# Altium schematic symbol library RegularLib.SchLib: 34 symbols
Pins are listed as number, name and electrical type; pins without a type are passive.

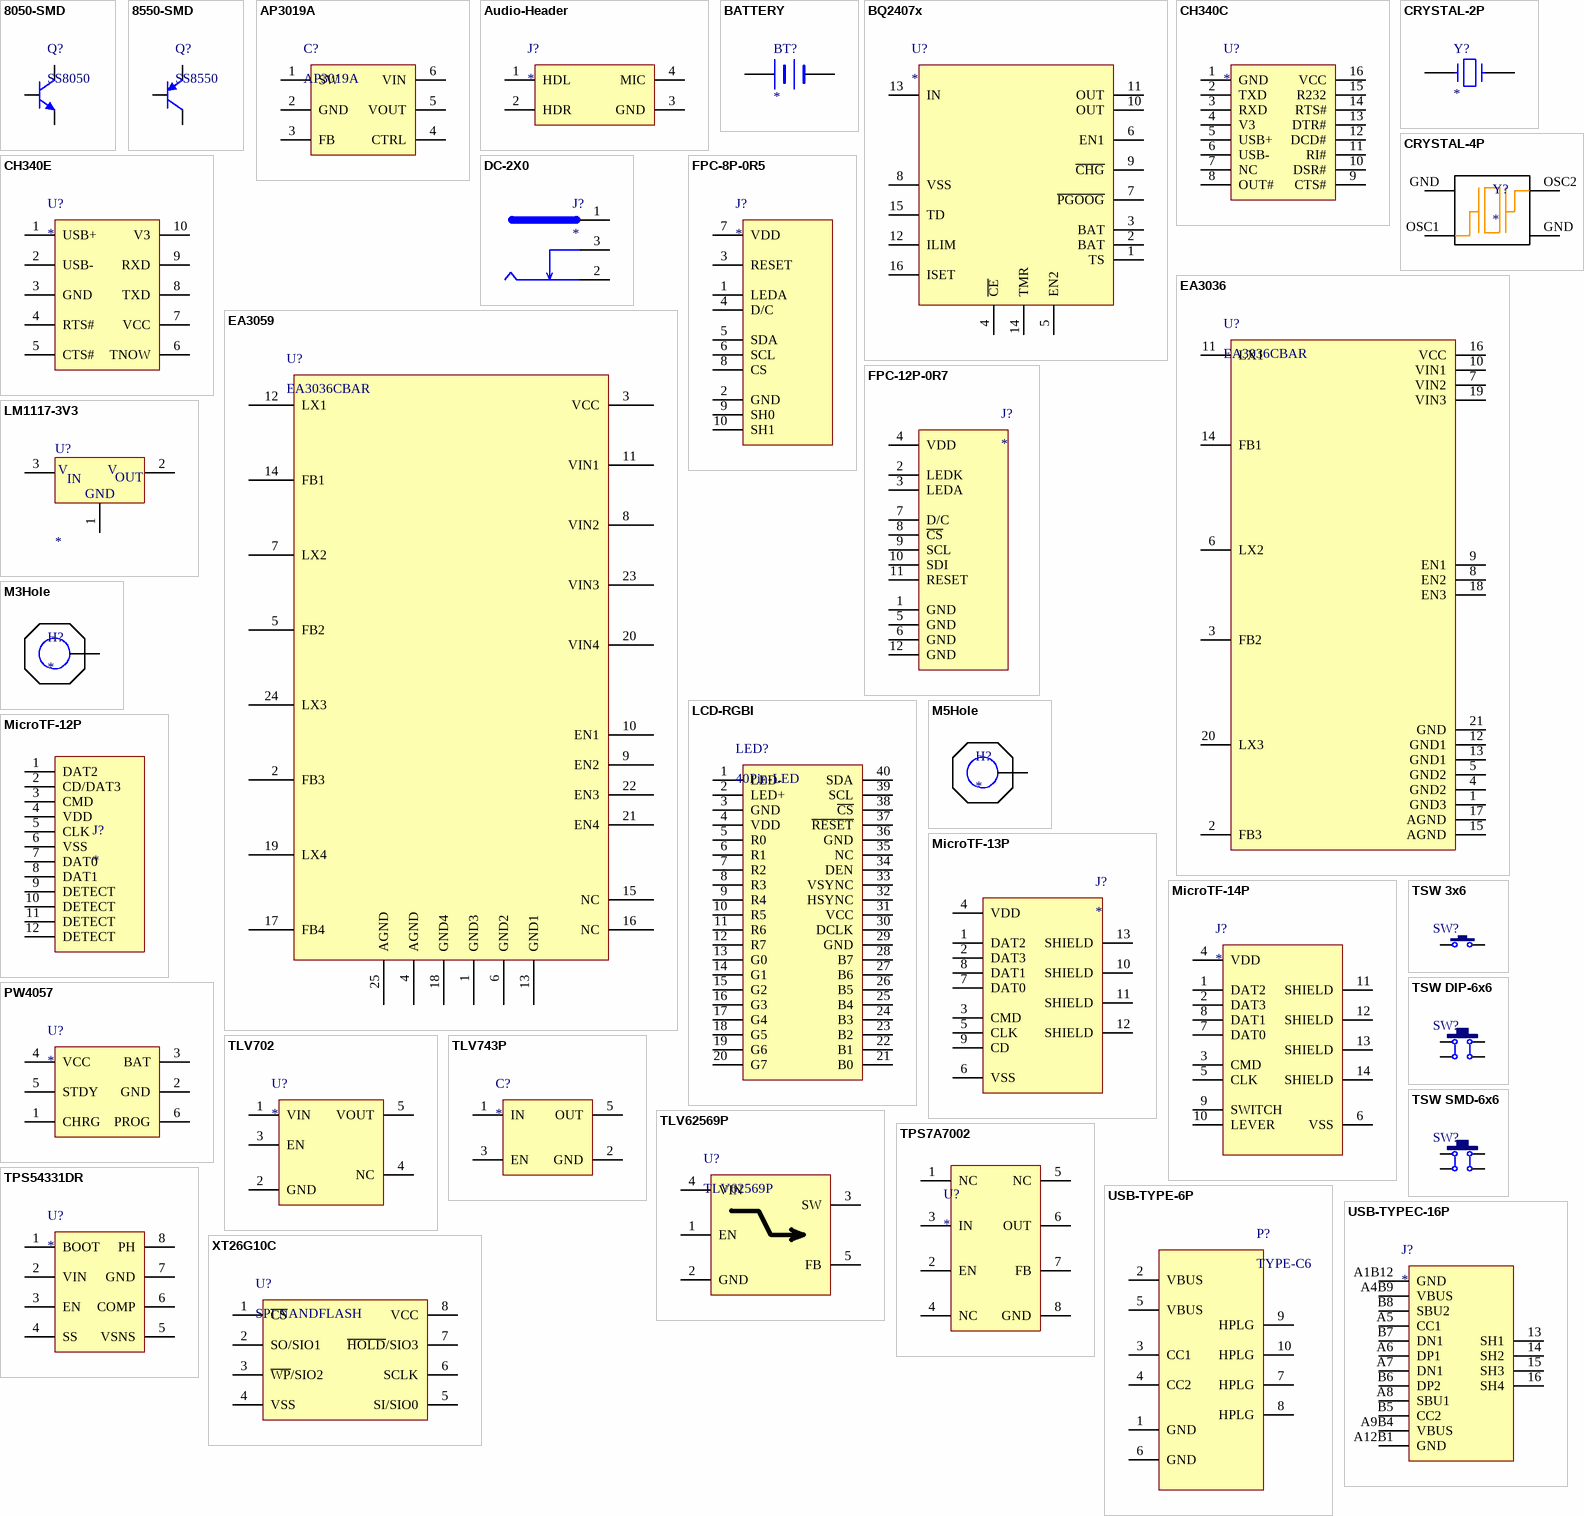
[diagram p0: symbols 8050-SMD to XT26G10C]

## 8050-SMD
designator Q?, comment SS8050
高频放大-NPN型; 版权归属: 源创客; 属性: 40V 1.5A 1W 100MHZ; BOM名称: 高频放大-NPN型; 学习资源: www.ooocke.com
footprint SOT23-3N (3x1.3x1mm(长宽高))
footprint SOT23-3L (3x1.3x1mm(长宽高))
footprint SOT23-3M (3x1.3x1mm(长宽高))
pins: 1 B, 2 E, 3 C

## 8550-SMD
designator Q?, comment SS8550
高频放大-PNP型; 版权归属: 源创客; 属性: 40V 1.5A 1W 100MHZ; BOM名称: 高频放大-PNP型; 学习资源: www.ooocke.com
footprint SOT23-3N (3x1.3x1mm(长宽高))
footprint SOT23-3L (3x1.3x1mm(长宽高))
footprint SOT23-3M (3x1.3x1mm(长宽高))
pins: 1 B, 2 E, 3 C

## AP3019A
designator C?
pins: 1 SW, 2 GND, 3 FB, 4 CTRL, 5 VOUT, 6 VIN

## Audio-Header
designator J?
footprint Audio-Header-4 (Shouhan audio header of 4 pin)
pins: 1 HDL, 2 HDR, 3 GND, 4 MIC

## BATTERY
designator BT?
Battery
pins: 1 +, 2 -

## BQ2407x
designator U?
footprint VQFN127P600-8N
pins: 1 TS, 2 BAT, 3 BAT, 4 ~{CE}, 5 EN2, 6 EN1, 7 ~{PGOOG}, 8 VSS, 9 ~{CHG}, 10 OUT, 11 OUT, 12 ILIM, 13 IN, 14 TMR, 15 TD, 16 ISET

## CH340C
designator U?
footprint SOP127P610X180-16N (SOP, 16-Leads, Body 10.10x3.95mm, Pitch 1.27mm, IPC Medium Density)
pins: 1 GND, 2 TXD, 3 RXD, 4 V3, 5 USB+, 6 USB-, 7 NC, 8 OUT#, 9 CTS#, 10 DSR#, 11 RI#, 12 DCD#, 13 DTR#, 14 RTS#, 15 R232, 16 VCC

## CH340E
designator U?
pins: 1 USB+, 2 USB-, 3 GND, 4 RTS#, 5 CTS#, 6 TNOW, 7 VCC, 8 TXD, 9 RXD, 10 V3

## CRYSTAL-2P
designator Y?
Crystal
pins: 1, 2

## CRYSTAL-4P
designator Y?
Ctrystal of 4 pin
footprint SMD3225-4P
pins: GND 3, GND 4, OSC1 1, OSC2 2

## DC-2X0
designator J?
footprint DC2.0-3P (The header of the DC, with 2.0mm)
pins: 1, 2, 3

## EA3036
designator U?, comment EA3036CBAR
footprint QFN-3X3-20-EA3036
pins: 1 GND3, 2 FB3, 3 FB2, 4 GND2, 5 GND2, 6 LX2, 7 VIN2, 8 EN2, 9 EN1, 10 VIN1, 11 LX1, 12 GND1, 13 GND1, 14 FB1, 15 AGND, 16 VCC, 17 AGND, 18 EN3, 19 VIN3, 20 LX3, 21 GND

## EA3059
designator U?, comment EA3036CBAR
footprint QFN-4X4-24-EA3059 (QFN, 24-Leads, Body 4.00x4.00mm, Pitch 0.50mm, Thermal Pad 2.50x2.50mm, IPC Medium Density)
pins: 1 GND3, 2 FB3, 3 VCC, 4 AGND, 5 FB2, 6 GND2, 7 LX2, 8 VIN2, 9 EN2, 10 EN1, 11 VIN1, 12 LX1, 13 GND1, 14 FB1, 15 NC, 16 NC, 17 FB4, 18 GND4, 19 LX4, 20 VIN4, 21 EN4, 22 EN3, 23 VIN3, 24 LX3, 25 AGND

## FPC-8P-0R5
designator J?
footprint FPC-8P-0R5 (FPC connector of 8Pin, and 0.5mm pin)
pins: 1 LEDA, 2 GND, 3 RESET, 4 D/C, 5 SDA, 6 SCL, 7 VDD, 8 CS, 9 SH0, 10 SH1

## FPC-12P-0R7
designator J?
footprint FPC12-0R7
pins: 1 GND, 2 LEDK, 3 LEDA, 4 VDD, 5 GND, 6 GND, 7 D/C, 8 ~{CS}, 9 SCL, 10 SDI, 11 RESET, 12 GND

## LCD-RGBI
designator LED?, comment 40Pin-LED
footprint FPC-40P-0R5
pins: 1 LED-, 2 LED+, 3 GND, 4 VDD, 5 R0, 6 R1, 7 R2, 8 R3, 9 R4, 10 R5, 11 R6, 12 R7, 13 G0, 14 G1, 15 G2, 16 G3, 17 G4, 18 G5, 19 G6, 20 G7, 21 B0, 22 B1, 23 B2, 24 B3, 25 B4, 26 B5, 27 B6, 28 B7, 29 GND, 30 DCLK, 31 VCC, 32 HSYNC, 33 VSYNC, 34 DEN, 35 NC, 36 GND, 37 ~{RESET}, 38 ~{CS}, 39 SCL, 40 SDA

## LM1117-3V3
designator U?
3-Terminal Positive Voltage Regulator
simulation model 78L05 (SUBCKT)
footprint SOT223
pins: 1 GND, 2 VOUT, 3 VIN
text: V; IN; OUT

## M3Hole
designator H?
footprint M3Hole
pins: 0 5

## M5Hole
designator H?
footprint Hole (5mm~2.5mm)
pins: 0 5

## MicroTF-12P
designator J?
footprint MicroSD-12P (富士康)
pins: 1 DAT2, 2 CD/DAT3, 3 CMD, 4 VDD, 5 CLK, 6 VSS, 7 DAT0, 8 DAT1, 9 DETECT, 10 DETECT, 11 DETECT, 12 DETECT

## MicroTF-13P
designator J?
XunPu Micro-SD card slot,  lable: TF-115
footprint MicroSD-13P-XunPu
pins: 1 DAT2, 2 DAT3, 3 CMD, 4 VDD, 5 CLK, 6 VSS, 7 DAT0, 8 DAT1, 9 CD, 10 SHIELD, 11 SHIELD, 12 SHIELD, 13 SHIELD

## MicroTF-14P
designator J?
Modelx micro-sd
footprint MICROSD-14P-MODELX (modelx-81892)
pins: 1 DAT2, 2 DAT3, 3 CMD, 4 VDD, 5 CLK, 6 VSS, 7 DAT0, 8 DAT1, 9 SWITCH, 10 LEVER, 11 SHIELD, 12 SHIELD, 13 SHIELD, 14 SHIELD

## PW4057
designator U?
pins: 1 CHRG, 2 GND, 3 BAT, 4 VCC, 5 STDY, 6 PROG

## TLV702
designator U?
TI LDO chip, max output current: 300mA, drapout=220mV
footprint SOT23-5
pins: 1 VIN, 2 GND, 3 EN, 4 NC, 5 VOUT

## TLV743P
designator C?
This device is SOT233-5 footprint, the function of device is LDO regulator
footprint SOT23-5
pins: 1 IN, 2 GND, 3 EN, 5 OUT

## TLV62569P
designator U?
The TLV62569 is a high-efficiency synchronous step-down converter. The device operates with an adaptive off time with peak current control scheme
footprint SOT23-5
pins: 1 EN, 2 GND, 3 SW, 4 VIN, 5 FB

## TPS7A7002
designator U?
TI LDO regulator, provide super low dropout voltage and high output current 3A
footprint SOIC-8-EP (The TPS7A7002 offers a high current supply with very-low dropout voltage)
pins: 1 NC, 2 EN, 3 IN, 4 NC, 5 NC, 6 OUT, 7 FB, 8 GND

## TPS54331DR
designator U?
TI bulk chip, 3A
footprint SOP8
pins: 1 BOOT, 2 VIN, 3 EN, 4 SS, 5 VSNS, 6 COMP, 7 GND, 8 PH

## TSW 3x6
designator SW?, comment 3x6x5  (value not drawn)
3x6轻触开关; 版权归属: 源创客; BOM名称: 3x6轻触开关; 学习资源: www.ooocke.com
pins: 1, 2

## TSW DIP-6x6
designator SW?, comment 6x6x5  (value not drawn)
直插6x6轻触开关; 版权归属: 源创客; BOM名称: 直插6x6轻触开关; 学习资源: www.ooocke.com
pins: 1, 2, 3, 4

## TSW SMD-6x6
designator SW?, comment 6x6x5  (value not drawn)
贴片6x6轻触开关; 版权归属: 源创客; BOM名称: 贴片6x6轻触开关; 学习资源: www.ooocke.com
footprint TSW SMD-6*6*4.3 (6*6*4.3mm)
footprint TSW SMD-6*6*5 (6*6*5mm)
footprint TSW SMD-6*6*6 (6*6*6mm)
footprint TSW SMD-6*6*7 (6*6*7mm)
footprint TSW SMD-6*6*8 (6*6*8mm)
footprint TSW SMD-6*6*9 (6*6*9mm)
footprint TSW SMD-6*6*10 (6*6*10mm)
footprint TSW SMD-6*6*12 (6*6*12mm)
footprint TSW SMD-6*6*13 (6*6*13mm)
footprint TSW SMD-6*6*14 (6*6*14mm)
footprint TSW SMD-6*6*15 (6*6*15mm)
pins: 1, 2, 3, 4

## USB-TYPE-6P
designator P?, comment TYPE-C6
footprint USB-TYPE-C6 (This component come from taobao, hahaha!)
pins: 1 GND, 2 VBUS, 3 CC1, 4 CC2, 5 VBUS, 6 GND, 7 HPLG, 8 HPLG, 9 HPLG, 10 HPLG

## USB-TYPEC-16P
designator J?
footprint USB-TYPEC-16P
pins: 13 SH1, 14 SH2, 15 SH3, 16 SH4, A1B12 GND, A4B9 VBUS, A5 CC1, A6 DP1, A7 DN1, A8 SBU1, A9B4 VBUS, A12B1 GND, B5 CC2, B6 DP2, B7 DN1, B8 SBU2

## XT26G10C
designator U?, comment SPI NANDFLASH
footprint SWON127P8 (SON, 8-Leads, Body 6.00x8.00mm, Pitch 1.27mm, Thermal Pad 4.30x3.40mm, IPC Medium Density)
pins: 1 ~{CS}, 2 SO/SIO1, 3 ~{WP}/SIO2, 4 VSS, 5 SI/SIO0, 6 SCLK, 7 ~{HOLD}/SIO3, 8 VCC